# Altium integrated library Lattice FPGA XP.IntLib: 280 symbols (part 25 of 55)
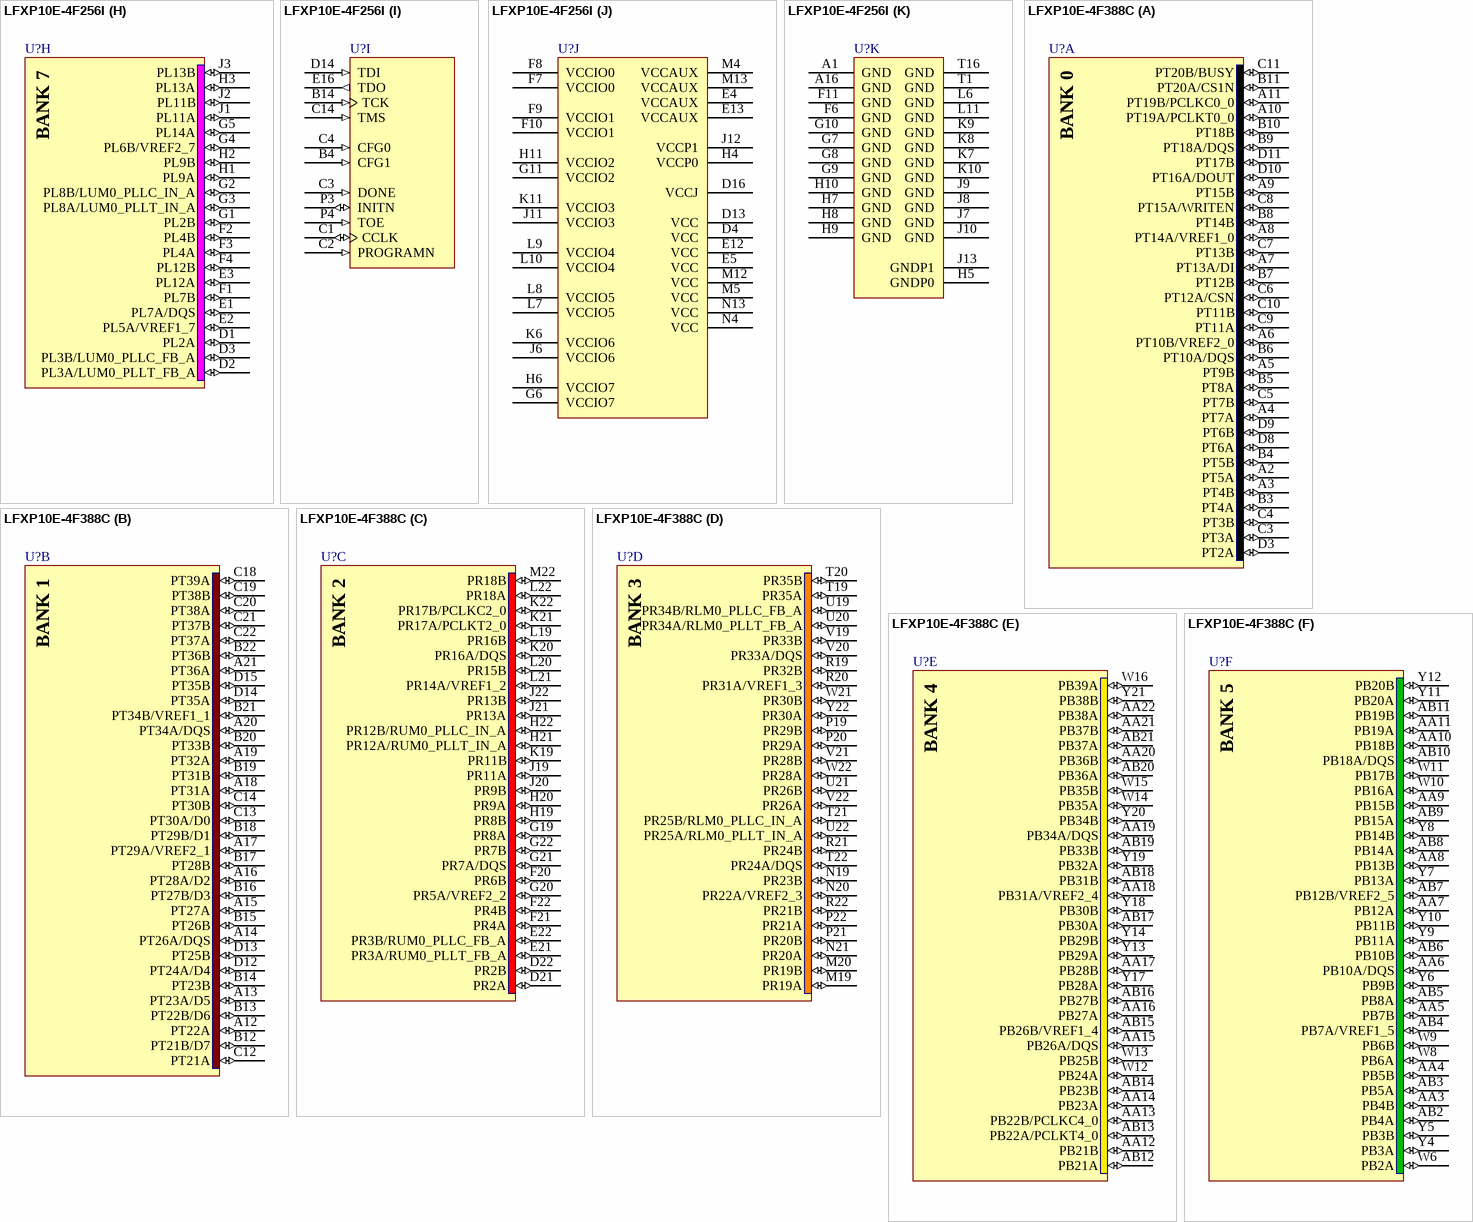
[diagram p364: symbols LFXP10E-4F256I to LFXP10E-4F388C]

## LFXP10E-4F256I
designator U?
XP 1.2V FPGA, 188 I/Os, 10K LUTs, 256-Pin fpBGA, Speed Grade 4, Industrial Grade; DatasheetVersion: ver05.1, Nov-2007; PackageVersion: ver01.8, Dec-2008; PackageReference: fpBGA256; PackageDescription: 256-Ball Fine Pitch Ball Grid Array (fpBGA256); Code_IPC: BGA100P16X16-256; ComponentLink1Description: Manufacturer URL; ComponentLink1URL: http://www.latticesemi.com/; ComponentLink2Description: Datasheet; ComponentLink2URL: http://www.latticesemi.com/lit/docs/datasheets/fpga/DS1001.pdf; ComponentLink3Description: Package Specification; ComponentLink3URL: http://www.latticesemi.com/lit/docs/package/pkg.pdf
footprint fpBGA256 (BGA, 256-Leads, Body 17x17mm, Pitch 1mm)
part A pins: A2 PT3B (io), A3 PT6A/DQS (io), A4 PT8B (io), A5 PT9B (io), A6 PT11B (io), A7 PT15A/PCLKT0_0 (io), A8 PT15B/PCLKC0_0 (io), B1 PT3A (io), B2 PT4A (io), B3 PT5B (io), B5 PT9A/DI (io), B6 PT8A/CSN (io), B7 PT14B (io), B8 PT16A/CS1N (io), C5 PT2A (io), C6 PT11A/WRITEN (io), C7 PT14A/DQS (io), D5 PT6B/VREF2_0 (io), D6 PT7A (io), D7 PT10A/VREF1_0 (io), D8 PT12A/DOUT (io), E6 PT7B (io), E7 PT10B (io), E8 PT13B (io), E9 PT16B/BUSY (io), F5 PT2B (io)
part B pins: A9 PT18A (io), A10 PT19B (io), A11 PT23A (io), A12 PT24B (io), A13 PT26B (io), A14 PT29B (io), A15 PT31B (io), B9 PT21B (io), B10 PT19A/D5 (io), B11 PT22B (io), B12 PT24A/D2 (io), B13 PT30B (io), B15 PT31A (io), C8 PT17A (io), C9 PT17B/D7 (io), C10 PT25B/D1 (io), C11 PT30A/DQS (io), C12 PT23B/D3 (io), C13 PT26A/D0 (io), D9 PT20A/D4 (io), D10 PT18B/D6 (io), D11 PT22A/DQS (io), D12 PT28A/VREF1_1 (io), E10 PT25A/VREF2_1 (io), E11 PT27A (io), F12 PT27B (io)
part C pins: B16 PR7B (io), C15 PR3A/RUM0_PLLT_FB_A (io), C16 PR7A/DQS (io), D15 PR3B/RUM0_PLLC_FB_A (io), E14 PR4A (io), E15 PR5A/VREF2_2 (io), F13 PR9A (io), F14 PR4B (io), F15 PR14A (io), F16 PR8A/RUM0_PLLT_IN_A (io), G12 PR9B (io), G13 PR2A (io), G14 PR11A (io), G15 PR11B (io), G16 PR8B/RUM0_PLLC_IN_A (io), H12 PR13A (io), H13 PR13B (io), H14 PR6B/VREF1_2 (io), H15 PR2B (io), H16 PR12A/PCLKT2_0 (io), J16 PR12B/PCLKC2_0 (io)
part D pins: J14 PR16A (io), J15 PR16B (io), K12 PR17A (io), K13 PR22A/VREF2_3 (io), K14 PR19B (io), K15 PR19A (io), K16 PR18A (io), L12 PR17B (io), L13 PR25A (io), L14 PR21A (io), L15 PR21B (io), L16 PR18B (io), M14 PR25B (io), M15 PR15B (io), M16 PR20B (io), N14 PR23B/VREF1_3 (io), N15 PR26A (io), N16 PR20A (io), P15 PR26B (io), P16 PR24B (io), R16 PR24A/DQS (io)
part E pins: M9 PB21B (io), M10 PB25B (io), M11 PB24A (io), N9 PB20A (io), N10 PB25A (io), N11 PB24B (io), N12 PB30B (io), P9 PB17B (io), P10 PB19B (io), P11 PB30A/DQS (io), P12 PB27B (io), P13 PB23A (io), P14 PB26B (io), R9 PB17A (io), R10 PB19A (io), R11 PB27A/VREF2_4 (io), R12 PB22A/DQS (io), R13 PB23B (io), R14 PB29B (io), R15 PB31B (io), T10 PB18A/PCLKT4_0 (io), T11 PB18B/PCLKC4_0 (io), T12 PB22B/VREF1_4 (io), T13 PB26A (io), T14 PB28A (io), T15 PB31A (io)
part F pins: M7 PB3A (io), M8 PB9B (io), N5 PB2B (io), N6 PB4A (io), N7 PB9A (io), N8 PB13B (io), P5 PB5B/VREF1_5 (io), P6 PB10B (io), P7 PB12A (io), P8 PB15A (io), R1 PB3B (io), R2 PB6A/DQS (io), R3 PB7A (io), R4 PB2A (io), R5 PB8B/VREF2_5 (io), R6 PB11B (io), R7 PB14A/DQS (io), R8 PB16A (io), T2 PB6B (io), T3 PB7B (io), T4 PB8A (io), T5 PB10A (io), T6 PB11A (io), T7 PB14B (io), T8 PB15B (io), T9 PB16B (io)
part G pins: J4 PL15B (io), J5 PL22A/VREF1_6 (io), K1 PL17A/PCLKT6_0 (io), K2 PL17B/PCLKC6_0 (io), K3 PL19A (io), K4 PL20A (io), K5 PL20B (io), L1 PL16A (io), L2 PL16B (io), L3 PL19B (io), L4 PL21A (io), L5 PL25A (io), M1 PL18A (io), M2 PL18B (io), M3 PL26A (io), M6 PL25B (io), N1 PL23B/VREF2_6 (io), N2 PL21B (io), N3 PL26B (io), P1 PL24A/DQS (io), P2 PL24B (io)
part H pins: D1 PL2A (io), D2 PL3A/LUM0_PLLT_FB_A (io), D3 PL3B/LUM0_PLLC_FB_A (io), E1 PL7A/DQS (io), E2 PL5A/VREF1_7 (io), E3 PL12A (io), F1 PL7B (io), F2 PL4B (io), F3 PL4A (io), F4 PL12B (io), G1 PL2B (io), G2 PL8B/LUM0_PLLC_IN_A (io), G3 PL8A/LUM0_PLLT_IN_A (io), G4 PL6B/VREF2_7 (io), G5 PL14A (io), H1 PL9A (io), H2 PL9B (io), H3 PL13A (io), J1 PL11A (io), J2 PL11B (io), J3 PL13B (io)
part I pins: B4 CFG1 (in), B14 TCK (in), C1 CCLK (io), C2 PROGRAMN (in), C3 DONE (in), C4 CFG0 (in), C14 TMS (in), D14 TDI (in), E16 TDO (out), P3 INITN (io), P4 TOE (in)
part J pins: D4 VCC (power), D13 VCC (power), D16 VCCJ (power), E4 VCCAUX (power), E5 VCC (power), E12 VCC (power), E13 VCCAUX (power), F7 VCCIO0 (power), F8 VCCIO0 (power), F9 VCCIO1 (power), F10 VCCIO1 (power), G6 VCCIO7 (power), G11 VCCIO2 (power), H4 VCCP0 (power), H6 VCCIO7 (power), H11 VCCIO2 (power), J6 VCCIO6 (power), J11 VCCIO3 (power), J12 VCCP1 (power), K6 VCCIO6 (power), K11 VCCIO3 (power), L7 VCCIO5 (power), L8 VCCIO5 (power), L9 VCCIO4 (power), L10 VCCIO4 (power), M4 VCCAUX (power), M5 VCC (power), M12 VCC (power), M13 VCCAUX (power), N4 VCC (power), N13 VCC (power)
part K pins: A1 GND (power), A16 GND (power), F6 GND (power), F11 GND (power), G7 GND (power), G8 GND (power), G9 GND (power), G10 GND (power), H5 GNDP0 (power), H7 GND (power), H8 GND (power), H9 GND (power), H10 GND (power), J7 GND (power), J8 GND (power), J9 GND (power), J10 GND (power), J13 GNDP1 (power), K7 GND (power), K8 GND (power), K9 GND (power), K10 GND (power), L6 GND (power), L11 GND (power), T1 GND (power), T16 GND (power)
part A text: BANK 0
part B text: BANK 1
part C text: BANK 2
part D text: BANK 3
part E text: BANK 4
part F text: BANK 5
part G text: BANK 6
part H text: BANK 7

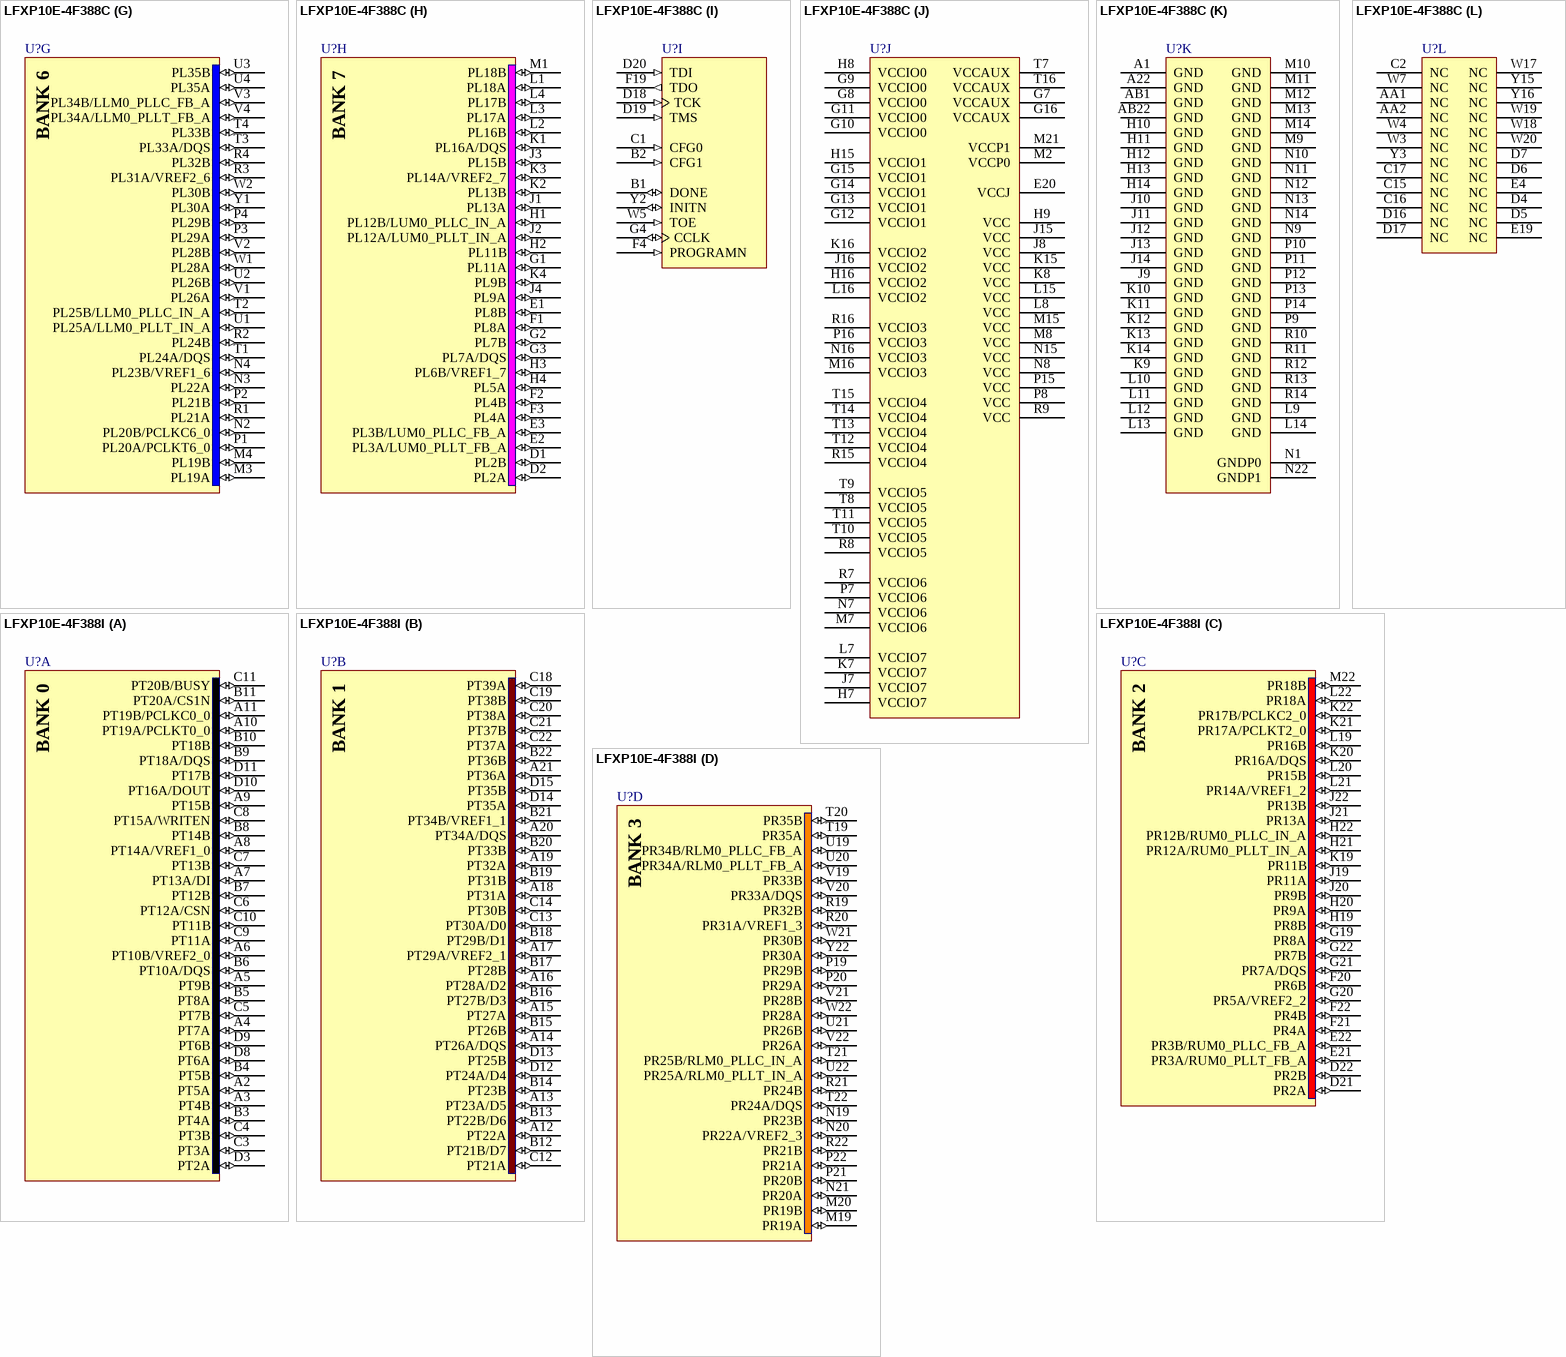
[diagram p102: symbols LFXP10E-4F388C to LFXP10E-4F388I]